# Altium schematic symbol library 53047-0210.SchLib: 1 symbol
Pins are listed as number, name and electrical type; pins without a type are passive.

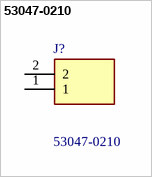
[diagram p0: symbol 53047-0210]

## 53047-0210
designator J?
Headers & Wire Housings VERTICAL HDR 2P; Manufacturer_Name: Molex; Geometry.Height: 4.4mm; Mouser Part Number: 538-53047-0210; Mouser Price/Stock: https://www.mouser.co.uk/ProductDetail/Molex/53047-0210?qs=M5Ic86%252BuP8b8FQrTwriyOw%3D%3D; Manufacturer_Part_Number: 53047-0210; Datasheet Link: https://componentsearchengine.com/Datasheets/2/53047-0210.pdf
footprint 530470210
pins: 1, 2